# EAGLE library part FT600 (library ICs)
Interface Bridges, USB to FIFO, 3 V, 3.6 V, QFN56
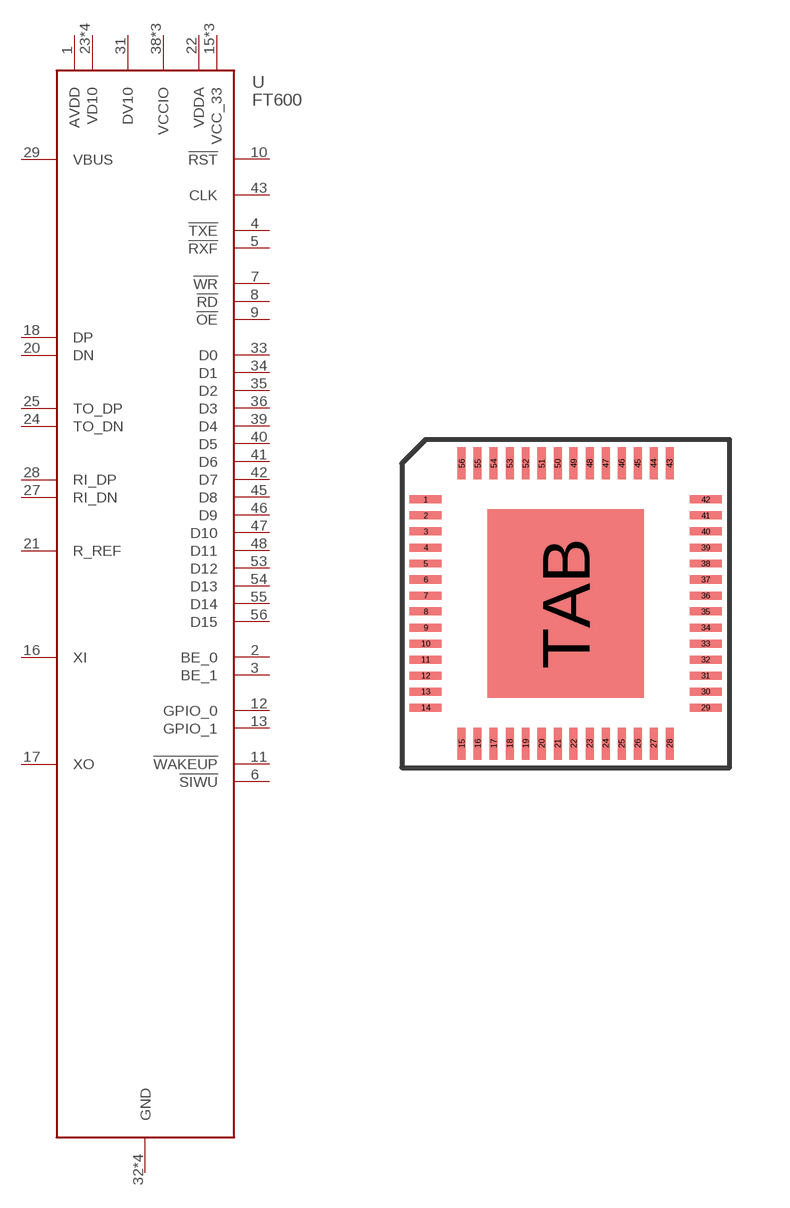
[diagram p90: symbol with the pads of QFN56; footprint QFN56]

Designator prefix U

## FT600Q-T (FARNELL: 2504711; PRICE_PER: 4.9282; VALUE: FT600)  [QFN56]
1  AVDD
2  BE_0
3  BE_1
4  !TXE
5  !RXF
6  !SIWU
7  !WR
8  !RD
9  !OE
10  !RST
11  !WAKEUP
12  GPIO_0
13  GPIO_1
15  VCC_33
16  XI
17  XO
18  DP
19  VCC_33
20  DN
21  R_REF
22  VDDA
23  VD10
24  TO_DN
25  TO_DP
26  VD10
27  RI_DN
28  RI_DP
29  VBUS
30  VCC_33
31  DV10
32  GND
33  D0
34  D1
35  D2
36  D3
37  VD10
38  VCCIO
39  D4
40  D5
41  D6
42  D7
43  CLK
44  VCCIO
45  D8
46  D9
47  D10
48  D11
49  GND
50  VD10
51  GND
52  VCCIO
53  D12
54  D13
55  D14
56  D15
TAB  GND

## Footprint QFN56 (pad centres in mm)
smd 0.8 x 0.2: 1 -3.5,2.6; 2 -3.5,2.2; 3 -3.5,1.8; 4 -3.5,1.4; 5 -3.5,1; 6 -3.5,0.6; 7 -3.5,0.2; 8 -3.5,-0.2; 9 -3.5,-0.6; 10 -3.5,-1; 11 -3.5,-1.4; 12 -3.5,-1.8; 13 -3.5,-2.2; 14 -3.5,-2.6; 29 3.5,-2.6; 30 3.5,-2.2; 31 3.5,-1.8; 32 3.5,-1.4; 33 3.5,-1; 34 3.5,-0.6; 35 3.5,-0.2; 36 3.5,0.2; 37 3.5,0.6; 38 3.5,1; 39 3.5,1.4; 40 3.5,1.8; 41 3.5,2.2; 42 3.5,2.6
smd 0.2 x 0.8: 15 -2.6,-3.5; 16 -2.2,-3.5; 17 -1.8,-3.5; 18 -1.4,-3.5; 19 -1,-3.5; 20 -0.6,-3.5; 21 -0.2,-3.5; 22 0.2,-3.5; 23 0.6,-3.5; 24 1,-3.5; 25 1.4,-3.5; 26 1.8,-3.5; 27 2.2,-3.5; 28 2.6,-3.5; 43 2.6,3.5; 44 2.2,3.5; 45 1.8,3.5; 46 1.4,3.5; 47 1,3.5; 48 0.6,3.5; 49 0.2,3.5; 50 -0.2,3.5; 51 -0.6,3.5; 52 -1,3.5; 53 -1.4,3.5; 54 -1.8,3.5; 55 -2.2,3.5; 56 -2.6,3.5
smd 3.9 x 4.7: TAB 0,0